# Altium schematic symbol library IRF4905S - Copy.SchLib: 1 symbol
Pins are listed as number, name and electrical type; pins without a type are passive.

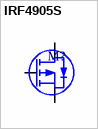
[diagram p0: symbol IRF4905S]

## IRF4905S
designator M?
55V 42A P-Channel
pins: 1 G, 3 S, 4 D